# EAGLE library part EPF10K200-BGA600 (library altera)
EPF10K200 FLEX 10K family
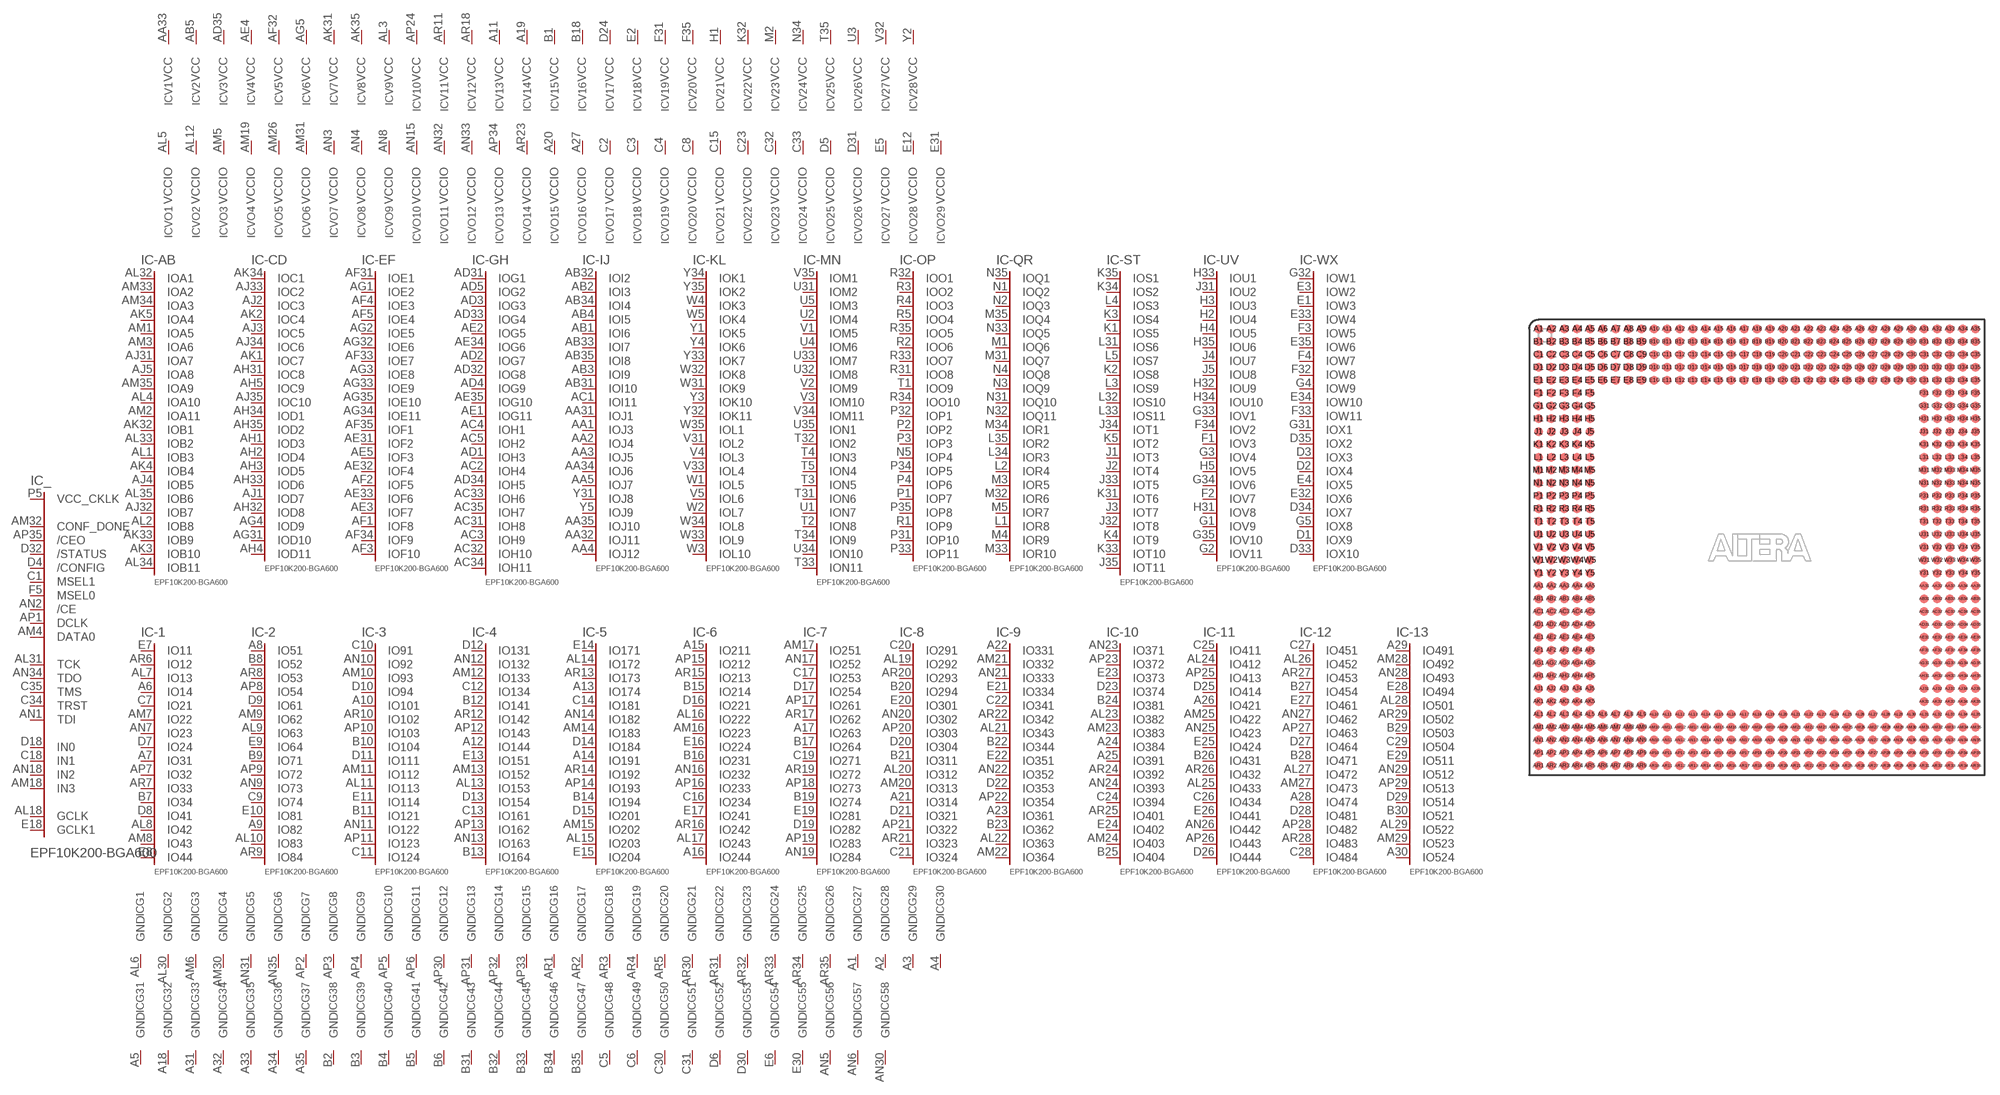
[diagram p45: symbol with the pads of BGA600; footprint BGA600]

Designator prefix IC; gates _=200B600C -AB=AB11 -CD=CD11 -EF=EF10 -GH=GH11 -IJ=IJ12 -KL=KL10 -MN=MN11 -OP=OP11 -QR=QR10 -ST=ST11 -UV=UV11 -WX=WX10 -1=IO44 -2=IO84 -3=IO124 -4=IO164 -5=IO204 -6=IO244 -7=IO284 -8=IO324 -9=IO364 -10=IO404 -11=IO444 -12=IO484 -13=IO524 G1=GND G2=GND G3=GND G4=GND G5=GND G6=GND G7=GND G8=GND G9=GND G10=GND G11=GND G12=GND G13=GND G14=GND G15=GND G16=GND G17=GND G18=GND G19=GND G20=GND G21=GND G22=GND G23=GND G24=GND G25=GND G26=GND G27=GND G28=GND G29=GND G30=GND G31=GND G32=GND G33=GND G34=GND G35=GND G36=GND G37=GND G38=GND G39=GND G40=GND G41=GND G42=GND G43=GND G44=GND G45=GND G46=GND G47=GND G48=GND G49=GND G50=GND G51=GND G52=GND G53=GND G54=GND G55=GND G56=GND G57=GND G58=GND V1=VCCINT V2=VCCINT V3=VCCINT V4=VCCINT V5=VCCINT V6=VCCINT V7=VCCINT V8=VCCINT V9=VCCINT V10=VCCINT V11=VCCINT V12=VCCINT V13=VCCINT V14=VCCINT V15=VCCINT V16=VCCINT V17=VCCINT V18=VCCINT V19=VCCINT V20=VCCINT V21=VCCINT V22=VCCINT V23=VCCINT V24=VCCINT V25=VCCINT V26=VCCINT V27=VCCINT V28=VCCINT VO1=VCCIO VO2=VCCIO VO3=VCCIO VO4=VCCIO VO5=VCCIO VO6=VCCIO VO7=VCCIO VO8=VCCIO VO9=VCCIO VO10=VCCIO VO11=VCCIO VO12=VCCIO VO13=VCCIO VO14=VCCIO VO15=VCCIO VO16=VCCIO VO17=VCCIO VO18=VCCIO VO19=VCCIO VO20=VCCIO VO21=VCCIO VO22=VCCIO VO23=VCCIO VO24=VCCIO VO25=VCCIO VO26=VCCIO VO27=VCCIO VO28=VCCIO VO29=VCCIO

## EPF10K200-BGA600 (MPN: EPF10K200EBC600-1; OC_FARNELL: unknown; OC_NEWARK: 51R8896)  [BGA600]
A1  G27:GND  pwr
A2  G28:GND  pwr
A3  G29:GND  pwr
A4  G30:GND  pwr
A5  G31:GND  pwr
A6  -1:IO14
A7  -1:IO31
A8  -2:IO51
A9  -2:IO82
A10  -3:IO101
A11  V13:VCC  pwr
A12  -4:IO144
A13  -5:IO174
A14  -5:IO191
A15  -6:IO211
A16  -6:IO244
A17  -7:IO263
A18  G32:GND  pwr
A19  V14:VCC  pwr
A20  VO15:VCCIO  pwr
A21  -8:IO314
A22  -9:IO331
A23  -9:IO361
A24  -10:IO384
A25  -10:IO391
A26  -11:IO421
A27  VO16:VCCIO  pwr
A28  -12:IO474
A29  -13:IO491
A30  -13:IO524
A31  G33:GND  pwr
A32  G34:GND  pwr
A33  G35:GND  pwr
A34  G36:GND  pwr
A35  G37:GND  pwr
AA1  -IJ:IOJ3
AA2  -IJ:IOJ4
AA3  -IJ:IOJ5
AA4  -IJ:IOJ12
AA5  -IJ:IOJ7
AA31  -IJ:IOJ1
AA32  -IJ:IOJ11
AA33  V1:VCC  pwr
AA34  -IJ:IOJ6
AA35  -IJ:IOJ10
AB1  -IJ:IOI6
AB2  -IJ:IOI3
AB3  -IJ:IOI9
AB4  -IJ:IOI5
AB5  V2:VCC  pwr
AB31  -IJ:IOI10
AB32  -IJ:IOI2
AB33  -IJ:IOI7
AB34  -IJ:IOI4
AB35  -IJ:IOI8
AC1  -IJ:IOI11
AC2  -GH:IOH4
AC3  -GH:IOH9
AC4  -GH:IOH1
AC5  -GH:IOH2
AC31  -GH:IOH8
AC32  -GH:IOH10
AC33  -GH:IOH6
AC34  -GH:IOH11
AC35  -GH:IOH7
AD1  -GH:IOH3
AD2  -GH:IOG7
AD3  -GH:IOG3
AD4  -GH:IOG9
AD5  -GH:IOG2
AD31  -GH:IOG1
AD32  -GH:IOG8
AD33  -GH:IOG4
AD34  -GH:IOH5
AD35  V3:VCC  pwr
AE1  -GH:IOG11
AE2  -GH:IOG5
AE3  -EF:IOF7
AE4  V4:VCC  pwr
AE5  -EF:IOF3
AE31  -EF:IOF2
AE32  -EF:IOF4
AE33  -EF:IOF6
AE34  -GH:IOG6
AE35  -GH:IOG10
AF1  -EF:IOF8
AF2  -EF:IOF5
AF3  -EF:IOF10
AF4  -EF:IOE3
AF5  -EF:IOE4
AF31  -EF:IOE1
AF32  V5:VCC  pwr
AF33  -EF:IOE7
AF34  -EF:IOF9
AF35  -EF:IOF1
AG1  -EF:IOE2
AG2  -EF:IOE5
AG3  -EF:IOE8
AG4  -CD:IOD9
AG5  V6:VCC  pwr
AG31  -CD:IOD10
AG32  -EF:IOE6
AG33  -EF:IOE9
AG34  -EF:IOE11
AG35  -EF:IOE10
AH1  -CD:IOD3
AH2  -CD:IOD4
AH3  -CD:IOD5
AH4  -CD:IOD11
AH5  -CD:IOC9
AH31  -CD:IOC8
AH32  -CD:IOD8
AH33  -CD:IOD6
AH34  -CD:IOD1
AH35  -CD:IOD2
AJ1  -CD:IOD7
AJ2  -CD:IOC3
AJ3  -CD:IOC5
AJ4  -AB:IOB5
AJ5  -AB:IOA8
AJ31  -AB:IOA7
AJ32  -AB:IOB7
AJ33  -CD:IOC2
AJ34  -CD:IOC6
AJ35  -CD:IOC10
AK1  -CD:IOC7
AK2  -CD:IOC4
AK3  -AB:IOB10
AK4  -AB:IOB4
AK5  -AB:IOA4
AK31  V7:VCC  pwr
AK32  -AB:IOB1
AK33  -AB:IOB9
AK34  -CD:IOC1
AK35  V8:VCC  pwr
AL1  -AB:IOB3
AL2  -AB:IOB8
AL3  V9:VCC  pwr
AL4  -AB:IOA10
AL5  VO1:VCCIO  pwr
AL6  G1:GND  pwr
AL7  -1:IO13
AL8  -1:IO42
AL9  -2:IO63
AL10  -2:IO83
AL11  -3:IO113
AL12  VO2:VCCIO  pwr
AL13  -4:IO153
AL14  -5:IO172
AL15  -5:IO203
AL16  -6:IO222
AL17  -6:IO243
AL18  _:GCLK  in
AL19  -8:IO292
AL20  -8:IO312
AL21  -9:IO343
AL22  -9:IO363
AL23  -10:IO382
AL24  -11:IO412
AL25  -11:IO433
AL26  -12:IO452
AL27  -12:IO472
AL28  -13:IO501
AL29  -13:IO522
AL30  G2:GND  pwr
AL31  _:TCK
AL32  -AB:IOA1
AL33  -AB:IOB2
AL34  -AB:IOB11
AL35  -AB:IOB6
AM1  -AB:IOA5
AM2  -AB:IOA11
AM3  -AB:IOA6
AM4  _:DATA0  in
AM5  VO3:VCCIO  pwr
AM6  G3:GND  pwr
AM7  -1:IO22
AM8  -1:IO43
AM9  -2:IO62
AM10  -3:IO93
AM11  -3:IO112
AM12  -4:IO133
AM13  -4:IO152
AM14  -5:IO183
AM15  -5:IO202
AM16  -6:IO223
AM17  -7:IO251
AM18  _:IN3  in
AM19  VO4:VCCIO  pwr
AM20  -8:IO313
AM21  -9:IO332
AM22  -9:IO364
AM23  -10:IO383
AM24  -10:IO403
AM25  -11:IO422
AM26  VO5:VCCIO  pwr
AM27  -12:IO473
AM28  -13:IO492
AM29  -13:IO523
AM30  G4:GND  pwr
AM31  VO6:VCCIO  pwr
AM32  _:CONF_DONE  in
AM33  -AB:IOA2
AM34  -AB:IOA3
AM35  -AB:IOA9
AN1  _:TDI
AN2  _:/CE  in
AN3  VO7:VCCIO  pwr
AN4  VO8:VCCIO  pwr
AN5  G56:GND  pwr
AN6  G57:GND  pwr
AN7  -1:IO23
AN8  VO9:VCCIO  pwr
AN9  -2:IO73
AN10  -3:IO92
AN11  -3:IO122
AN12  -4:IO132
AN13  -4:IO163
AN14  -5:IO182
AN15  VO10:VCCIO  pwr
AN16  -6:IO232
AN17  -7:IO252
AN18  _:IN2  in
AN19  -7:IO284
AN20  -8:IO302
AN21  -9:IO333
AN22  -9:IO352
AN23  -10:IO371
AN24  -10:IO393
AN25  -11:IO423
AN26  -11:IO442
AN27  -12:IO462
AN28  -13:IO493
AN29  -13:IO512
AN30  G58:GND  pwr
AN31  G5:GND  pwr
AN32  VO11:VCCIO  pwr
AN33  VO12:VCCIO  pwr
AN34  _:TDO
AN35  G6:GND  pwr
AP1  _:DCLK  in
AP2  G7:GND  pwr
AP3  G8:GND  pwr
AP4  G9:GND  pwr
AP5  G10:GND  pwr
AP6  G11:GND  pwr
AP7  -1:IO32
AP8  -2:IO54
AP9  -2:IO72
AP10  -3:IO103
AP11  -3:IO123
AP12  -4:IO143
AP13  -4:IO162
AP14  -5:IO193
AP15  -6:IO212
AP16  -6:IO233
AP17  -7:IO261
AP18  -7:IO273
AP19  -7:IO283
AP20  -8:IO303
AP21  -8:IO322
AP22  -9:IO354
AP23  -10:IO372
AP24  V10:VCC  pwr
AP25  -11:IO413
AP26  -11:IO443
AP27  -12:IO463
AP28  -12:IO482
AP29  -13:IO513
AP30  G12:GND  pwr
AP31  G13:GND  pwr
AP32  G14:GND  pwr
AP33  G15:GND  pwr
AP34  VO13:VCCIO  pwr
AP35  _:/CEO  in
AR1  G16:GND  pwr
AR2  G17:GND  pwr
AR3  G18:GND  pwr
AR4  G19:GND  pwr
AR5  G20:GND  pwr
AR6  -1:IO12
AR7  -1:IO33
AR8  -2:IO53
AR9  -2:IO84
AR10  -3:IO102
AR11  V11:VCC  pwr
AR12  -4:IO142
AR13  -5:IO173
AR14  -5:IO192
AR15  -6:IO213
AR16  -6:IO242
AR17  -7:IO262
AR18  V12:VCC  pwr
AR19  -7:IO272
AR20  -8:IO293
AR21  -8:IO323
AR22  -9:IO342
AR23  VO14:VCCIO  pwr
AR24  -10:IO392
AR25  -10:IO401
AR26  -11:IO432
AR27  -12:IO453
AR28  -12:IO483
AR29  -13:IO502
AR30  G21:GND  pwr
AR31  G22:GND  pwr
AR32  G23:GND  pwr
AR33  G24:GND  pwr
AR34  G25:GND  pwr
AR35  G26:GND  pwr
B1  V15:VCC  pwr
B2  G38:GND  pwr
B3  G39:GND  pwr
B4  G40:GND  pwr
B5  G41:GND  pwr
B6  G42:GND  pwr
B7  -1:IO34
B8  -2:IO52
B9  -2:IO71
B10  -3:IO104
B11  -3:IO121
B12  -4:IO141
B13  -4:IO164
B14  -5:IO194
B15  -6:IO214
B16  -6:IO231
B17  -7:IO264
B18  V16:VCC  pwr
B19  -7:IO274
B20  -8:IO294
B21  -8:IO311
B22  -9:IO344
B23  -9:IO362
B24  -10:IO381
B25  -10:IO404
B26  -11:IO431
B27  -12:IO454
B28  -12:IO471
B29  -13:IO503
B30  -13:IO521
B31  G43:GND  pwr
B32  G44:GND  pwr
B33  G45:GND  pwr
B34  G46:GND  pwr
B35  G47:GND  pwr
C1  _:MSEL1  in
C2  VO17:VCCIO  pwr
C3  VO18:VCCIO  pwr
C4  VO19:VCCIO  pwr
C5  G48:GND  pwr
C6  G49:GND  pwr
C7  -1:IO21
C8  VO20:VCCIO  pwr
C9  -2:IO74
C10  -3:IO91
C11  -3:IO124
C12  -4:IO134
C13  -4:IO161
C14  -5:IO181
C15  VO21:VCCIO  pwr
C16  -6:IO234
C17  -7:IO253
C18  _:IN1  in
C19  -7:IO271
C20  -8:IO291
C21  -8:IO324
C22  -9:IO341
C23  VO22:VCCIO  pwr
C24  -10:IO394
C25  -11:IO411
C26  -11:IO434
C27  -12:IO451
C28  -12:IO484
C29  -13:IO504
C30  G50:GND  pwr
C31  G51:GND  pwr
C32  VO23:VCCIO  pwr
C33  VO24:VCCIO  pwr
C34  _:TRST
C35  _:TMS
D1  -WX:IOX9
D2  -WX:IOX4
D3  -WX:IOX3
D4  _:/CONFIG  in
D5  VO25:VCCIO  pwr
D6  G52:GND  pwr
D7  -1:IO24
D8  -1:IO41
D9  -2:IO61
D10  -3:IO94
D11  -3:IO111
D12  -4:IO131
D13  -4:IO154
D14  -5:IO184
D15  -5:IO201
D16  -6:IO221
D17  -7:IO254
D18  _:IN0  in
D19  -7:IO282
D20  -8:IO304
D21  -8:IO321
D22  -9:IO353
D23  -10:IO374
D24  V17:VCC  pwr
D25  -11:IO414
D26  -11:IO444
D27  -12:IO464
D28  -12:IO481
D29  -13:IO514
D30  G53:GND  pwr
D31  VO26:VCCIO  pwr
D32  _:/STATUS  in
D33  -WX:IOX10
D34  -WX:IOX7
D35  -WX:IOX2
E1  -WX:IOW3
E2  V18:VCC  pwr
E3  -WX:IOW2
E4  -WX:IOX5
E5  VO27:VCCIO  pwr
E6  G54:GND  pwr
E7  -1:IO11
E8  -1:IO44
E9  -2:IO64
E10  -2:IO81
E11  -3:IO114
E12  VO28:VCCIO  pwr
E13  -4:IO151
E14  -5:IO171
E15  -5:IO204
E16  -6:IO224
E17  -6:IO241
E18  _:GCLK1  in
E19  -7:IO281
E20  -8:IO301
E21  -9:IO334
E22  -9:IO351
E23  -10:IO373
E24  -10:IO402
E25  -11:IO424
E26  -11:IO441
E27  -12:IO461
E28  -13:IO494
E29  -13:IO511
E30  G55:GND  pwr
E31  VO29:VCCIO  pwr
E32  -WX:IOX6
E33  -WX:IOW4
E34  -WX:IOW10
E35  -WX:IOW6
F1  -UV:IOV3
F2  -UV:IOV7
F3  -WX:IOW5
F4  -WX:IOW7
F5  _:MSEL0  in
F31  V19:VCC  pwr
F32  -WX:IOW8
F33  -WX:IOW11
F34  -UV:IOV2
F35  V20:VCC  pwr
G1  -UV:IOV9
G2  -UV:IOV11
G3  -UV:IOV4
G4  -WX:IOW9
G5  -WX:IOX8
G31  -WX:IOX1
G32  -WX:IOW1
G33  -UV:IOV1
G34  -UV:IOV6
G35  -UV:IOV10
H1  V21:VCC  pwr
H2  -UV:IOU4
H3  -UV:IOU3
H4  -UV:IOU5
H5  -UV:IOV5
H31  -UV:IOV8
H32  -UV:IOU9
H33  -UV:IOU1
H34  -UV:IOU10
H35  -UV:IOU6
J1  -ST:IOT3
J2  -ST:IOT4
J3  -ST:IOT7
J4  -UV:IOU7
J5  -UV:IOU8
J31  -UV:IOU2
J32  -ST:IOT8
J33  -ST:IOT5
J34  -ST:IOT1
J35  -ST:IOT11
K1  -ST:IOS5
K2  -ST:IOS8
K3  -ST:IOS4
K4  -ST:IOT9
K5  -ST:IOT2
K31  -ST:IOT6
K32  V22:VCC  pwr
K33  -ST:IOT10
K34  -ST:IOS2
K35  -ST:IOS1
L1  -QR:IOR8
L2  -QR:IOR4
L3  -ST:IOS9
L4  -ST:IOS3
L5  -ST:IOS7
L31  -ST:IOS6
L32  -ST:IOS10
L33  -ST:IOS11
L34  -QR:IOR3
L35  -QR:IOR2
M1  -QR:IOQ6
M2  V23:VCC  pwr
M3  -QR:IOR5
M4  -QR:IOR9
M5  -QR:IOR7
M31  -QR:IOQ7
M32  -QR:IOR6
M33  -QR:IOR10
M34  -QR:IOR1
M35  -QR:IOQ4
N1  -QR:IOQ2
N2  -QR:IOQ3
N3  -QR:IOQ9
N4  -QR:IOQ8
N5  -OP:IOP4
N31  -QR:IOQ10
N32  -QR:IOQ11
N33  -QR:IOQ5
N34  V24:VCC  pwr
N35  -QR:IOQ1
P1  -OP:IOP7
P2  -OP:IOP2
P3  -OP:IOP3
P4  -OP:IOP6
P5  _:VCC_CKLK  pas
P31  -OP:IOP10
P32  -OP:IOP1
P33  -OP:IOP11
P34  -OP:IOP5
P35  -OP:IOP8
R1  -OP:IOP9
R2  -OP:IOO6
R3  -OP:IOO2
R4  -OP:IOO3
R5  -OP:IOO4
R31  -OP:IOO8
R32  -OP:IOO1
R33  -OP:IOO7
R34  -OP:IOO10
R35  -OP:IOO5
T1  -OP:IOO9
T2  -MN:ION8
T3  -MN:ION5
T4  -MN:ION3
T5  -MN:ION4
T31  -MN:ION6
T32  -MN:ION2
T33  -MN:ION11
T34  -MN:ION9
T35  V25:VCC  pwr
U1  -MN:ION7
U2  -MN:IOM4
U3  V26:VCC  pwr
U4  -MN:IOM6
U5  -MN:IOM3
U31  -MN:IOM2
U32  -MN:IOM8
U33  -MN:IOM7
U34  -MN:ION10
U35  -MN:ION1
V1  -MN:IOM5
V2  -MN:IOM9
V3  -MN:IOM10
V4  -KL:IOL3
V5  -KL:IOL6
V31  -KL:IOL2
V32  V27:VCC  pwr
V33  -KL:IOL4
V34  -MN:IOM11
V35  -MN:IOM1
W1  -KL:IOL5
W2  -KL:IOL7
W3  -KL:IOL10
W4  -KL:IOK3
W5  -KL:IOK4
W31  -KL:IOK9
W32  -KL:IOK8
W33  -KL:IOL9
W34  -KL:IOL8
W35  -KL:IOL1
Y1  -KL:IOK5
Y2  V28:VCC  pwr
Y3  -KL:IOK10
Y4  -KL:IOK6
Y5  -IJ:IOJ9
Y31  -IJ:IOJ8
Y32  -KL:IOK11
Y33  -KL:IOK7
Y34  -KL:IOK1
Y35  -KL:IOK2

## Footprint BGA600 (pad centres in mm)
Ball Grid Array
smd 0.9 x 0.9: A1 -21.59,21.59; A2 -20.32,21.59; A3 -19.05,21.59; A4 -17.78,21.59; A5 -16.51,21.59; A6 -15.24,21.59; A7 -13.97,21.59; A8 -12.7,21.59; A9 -11.43,21.59; A10 -10.16,21.59; A11 -8.89,21.59; A12 -7.62,21.59; A13 -6.35,21.59; A14 -5.08,21.59; A15 -3.81,21.59; A16 -2.54,21.59; A17 -1.27,21.59; A18 0,21.59; A19 1.27,21.59; A20 2.54,21.59; A21 3.81,21.59; A22 5.08,21.59; A23 6.35,21.59; A24 7.62,21.59; A25 8.89,21.59; A26 10.16,21.59; A27 11.43,21.59; A28 12.7,21.59; A29 13.97,21.59; A30 15.24,21.59; A31 16.51,21.59; A32 17.78,21.59; A33 19.05,21.59; A34 20.32,21.59; A35 21.59,21.59; AA1 -21.59,-3.81; AA2 -20.32,-3.81; AA3 -19.05,-3.81; AA4 -17.78,-3.81; AA5 -16.51,-3.81; AA31 16.51,-3.81; AA32 17.78,-3.81; AA33 19.05,-3.81; AA34 20.32,-3.81; AA35 21.59,-3.81; AB1 -21.59,-5.08; AB2 -20.32,-5.08; AB3 -19.05,-5.08; AB4 -17.78,-5.08; AB5 -16.51,-5.08; AB31 16.51,-5.08; AB32 17.78,-5.08; AB33 19.05,-5.08; AB34 20.32,-5.08; AB35 21.59,-5.08; AC1 -21.59,-6.35; AC2 -20.32,-6.35; AC3 -19.05,-6.35; AC4 -17.78,-6.35; AC5 -16.51,-6.35; AC31 16.51,-6.35; AC32 17.78,-6.35; AC33 19.05,-6.35; AC34 20.32,-6.35; AC35 21.59,-6.35; AD1 -21.59,-7.62; AD2 -20.32,-7.62; AD3 -19.05,-7.62; AD4 -17.78,-7.62; AD5 -16.51,-7.62; AD31 16.51,-7.62; AD32 17.78,-7.62; AD33 19.05,-7.62; AD34 20.32,-7.62; AD35 21.59,-7.62; AE1 -21.59,-8.89; AE2 -20.32,-8.89; AE3 -19.05,-8.89; AE4 -17.78,-8.89; AE5 -16.51,-8.89; AE31 16.51,-8.89; AE32 17.78,-8.89; AE33 19.05,-8.89; AE34 20.32,-8.89; AE35 21.59,-8.89; AF1 -21.59,-10.16; AF2 -20.32,-10.16; AF3 -19.05,-10.16; AF4 -17.78,-10.16; AF5 -16.51,-10.16; AF31 16.51,-10.16; AF32 17.78,-10.16; AF33 19.05,-10.16; AF34 20.32,-10.16; AF35 21.59,-10.16; AG1 -21.59,-11.43; AG2 -20.32,-11.43; AG3 -19.05,-11.43; AG4 -17.78,-11.43; AG5 -16.51,-11.43; AG31 16.51,-11.43; AG32 17.78,-11.43; AG33 19.05,-11.43; AG34 20.32,-11.43; AG35 21.59,-11.43; AH1 -21.59,-12.7; AH2 -20.32,-12.7; AH3 -19.05,-12.7; AH4 -17.78,-12.7; AH5 -16.51,-12.7; AH31 16.51,-12.7; AH32 17.78,-12.7; AH33 19.05,-12.7; AH34 20.32,-12.7; AH35 21.59,-12.7; AJ1 -21.59,-13.97; AJ2 -20.32,-13.97; AJ3 -19.05,-13.97; AJ4 -17.78,-13.97; AJ5 -16.51,-13.97; AJ31 16.51,-13.97; AJ32 17.78,-13.97; AJ33 19.05,-13.97; AJ34 20.32,-13.97; AJ35 21.59,-13.97; AK1 -21.59,-15.24; AK2 -20.32,-15.24; AK3 -19.05,-15.24; AK4 -17.78,-15.24; AK5 -16.51,-15.24; AK31 16.51,-15.24; AK32 17.78,-15.24; AK33 19.05,-15.24; AK34 20.32,-15.24; AK35 21.59,-15.24; AL1 -21.59,-16.51; AL2 -20.32,-16.51; AL3 -19.05,-16.51; AL4 -17.78,-16.51; AL5 -16.51,-16.51; AL6 -15.24,-16.51; AL7 -13.97,-16.51; AL8 -12.7,-16.51; AL9 -11.43,-16.51; AL10 -10.16,-16.51; AL11 -8.89,-16.51; AL12 -7.62,-16.51; AL13 -6.35,-16.51; AL14 -5.08,-16.51; AL15 -3.81,-16.51; AL16 -2.54,-16.51; AL17 -1.27,-16.51; AL18 0,-16.51; AL19 1.27,-16.51; AL20 2.54,-16.51; AL21 3.81,-16.51; AL22 5.08,-16.51; AL23 6.35,-16.51; AL24 7.62,-16.51; AL25 8.89,-16.51; AL26 10.16,-16.51; AL27 11.43,-16.51; AL28 12.7,-16.51; AL29 13.97,-16.51; AL30 15.24,-16.51; AL31 16.51,-16.51; AL32 17.78,-16.51; AL33 19.05,-16.51; AL34 20.32,-16.51; AL35 21.59,-16.51; AM1 -21.59,-17.78; AM2 -20.32,-17.78; AM3 -19.05,-17.78; AM4 -17.78,-17.78; AM5 -16.51,-17.78; AM6 -15.24,-17.78; AM7 -13.97,-17.78; AM8 -12.7,-17.78; AM9 -11.43,-17.78; AM10 -10.16,-17.78; AM11 -8.89,-17.78; AM12 -7.62,-17.78; AM13 -6.35,-17.78; AM14 -5.08,-17.78; AM15 -3.81,-17.78; AM16 -2.54,-17.78; AM17 -1.27,-17.78; AM18 0,-17.78; AM19 1.27,-17.78; AM20 2.54,-17.78; AM21 3.81,-17.78; AM22 5.08,-17.78; AM23 6.35,-17.78; AM24 7.62,-17.78; AM25 8.89,-17.78; AM26 10.16,-17.78; AM27 11.43,-17.78; AM28 12.7,-17.78; AM29 13.97,-17.78; AM30 15.24,-17.78; AM31 16.51,-17.78; AM32 17.78,-17.78; AM33 19.05,-17.78; AM34 20.32,-17.78; AM35 21.59,-17.78; AN1 -21.59,-19.05; AN2 -20.32,-19.05; AN3 -19.05,-19.05; AN4 -17.78,-19.05; AN5 -16.51,-19.05; AN6 -15.24,-19.05; AN7 -13.97,-19.05; AN8 -12.7,-19.05; AN9 -11.43,-19.05; AN10 -10.16,-19.05; AN11 -8.89,-19.05; AN12 -7.62,-19.05; AN13 -6.35,-19.05; AN14 -5.08,-19.05; AN15 -3.81,-19.05; AN16 -2.54,-19.05; AN17 -1.27,-19.05; AN18 0,-19.05; AN19 1.27,-19.05; AN20 2.54,-19.05; AN21 3.81,-19.05; AN22 5.08,-19.05; AN23 6.35,-19.05; AN24 7.62,-19.05; AN25 8.89,-19.05; AN26 10.16,-19.05; AN27 11.43,-19.05; AN28 12.7,-19.05; AN29 13.97,-19.05; AN30 15.24,-19.05; AN31 16.51,-19.05; AN32 17.78,-19.05; AN33 19.05,-19.05; AN34 20.32,-19.05; AN35 21.59,-19.05; AP1 -21.59,-20.32; AP2 -20.32,-20.32; AP3 -19.05,-20.32; AP4 -17.78,-20.32; AP5 -16.51,-20.32; AP6 -15.24,-20.32; AP7 -13.97,-20.32; AP8 -12.7,-20.32; AP9 -11.43,-20.32; AP10 -10.16,-20.32; AP11 -8.89,-20.32; AP12 -7.62,-20.32; AP13 -6.35,-20.32; AP14 -5.08,-20.32; AP15 -3.81,-20.32; AP16 -2.54,-20.32; AP17 -1.27,-20.32; AP18 0,-20.32; AP19 1.27,-20.32; AP20 2.54,-20.32; AP21 3.81,-20.32; AP22 5.08,-20.32; AP23 6.35,-20.32; AP24 7.62,-20.32; AP25 8.89,-20.32; AP26 10.16,-20.32; AP27 11.43,-20.32; AP28 12.7,-20.32; AP29 13.97,-20.32; AP30 15.24,-20.32; AP31 16.51,-20.32; AP32 17.78,-20.32; AP33 19.05,-20.32; AP34 20.32,-20.32; AP35 21.59,-20.32; AR1 -21.59,-21.59; AR2 -20.32,-21.59; AR3 -19.05,-21.59; AR4 -17.78,-21.59; AR5 -16.51,-21.59; AR6 -15.24,-21.59; AR7 -13.97,-21.59; AR8 -12.7,-21.59; AR9 -11.43,-21.59; AR10 -10.16,-21.59; AR11 -8.89,-21.59; AR12 -7.62,-21.59; AR13 -6.35,-21.59; AR14 -5.08,-21.59; AR15 -3.81,-21.59; AR16 -2.54,-21.59; AR17 -1.27,-21.59; AR18 0,-21.59; AR19 1.27,-21.59; AR20 2.54,-21.59; AR21 3.81,-21.59; AR22 5.08,-21.59; AR23 6.35,-21.59; AR24 7.62,-21.59; AR25 8.89,-21.59; AR26 10.16,-21.59; AR27 11.43,-21.59; AR28 12.7,-21.59; AR29 13.97,-21.59; AR30 15.24,-21.59; AR31 16.51,-21.59; AR32 17.78,-21.59; AR33 19.05,-21.59; AR34 20.32,-21.59; AR35 21.59,-21.59; B1 -21.59,20.32; B2 -20.32,20.32; B3 -19.05,20.32; B4 -17.78,20.32; B5 -16.51,20.32; B6 -15.24,20.32; B7 -13.97,20.32; B8 -12.7,20.32; B9 -11.43,20.32; B10 -10.16,20.32; B11 -8.89,20.32; B12 -7.62,20.32; B13 -6.35,20.32; B14 -5.08,20.32; B15 -3.81,20.32; B16 -2.54,20.32; B17 -1.27,20.32; B18 0,20.32; B19 1.27,20.32; B20 2.54,20.32; B21 3.81,20.32; B22 5.08,20.32; B23 6.35,20.32; B24 7.62,20.32; B25 8.89,20.32; B26 10.16,20.32; B27 11.43,20.32; B28 12.7,20.32; B29 13.97,20.32; B30 15.24,20.32; B31 16.51,20.32; B32 17.78,20.32; B33 19.05,20.32; B34 20.32,20.32; B35 21.59,20.32; C1 -21.59,19.05; C2 -20.32,19.05; C3 -19.05,19.05; C4 -17.78,19.05; C5 -16.51,19.05; C6 -15.24,19.05; C7 -13.97,19.05; C8 -12.7,19.05; C9 -11.43,19.05; C10 -10.16,19.05; C11 -8.89,19.05; C12 -7.62,19.05; C13 -6.35,19.05; C14 -5.08,19.05; C15 -3.81,19.05; C16 -2.54,19.05; C17 -1.27,19.05; C18 0,19.05; C19 1.27,19.05; C20 2.54,19.05; C21 3.81,19.05; C22 5.08,19.05; C23 6.35,19.05; C24 7.62,19.05; C25 8.89,19.05; C26 10.16,19.05; C27 11.43,19.05; C28 12.7,19.05; C29 13.97,19.05; C30 15.24,19.05; C31 16.51,19.05; C32 17.78,19.05; C33 19.05,19.05; C34 20.32,19.05; C35 21.59,19.05; D1 -21.59,17.78; D2 -20.32,17.78; D3 -19.05,17.78; D4 -17.78,17.78; D5 -16.51,17.78; D6 -15.24,17.78; D7 -13.97,17.78; D8 -12.7,17.78; D9 -11.43,17.78; D10 -10.16,17.78; D11 -8.89,17.78; D12 -7.62,17.78; D13 -6.35,17.78; D14 -5.08,17.78; D15 -3.81,17.78; D16 -2.54,17.78; D17 -1.27,17.78; D18 0,17.78; D19 1.27,17.78; D20 2.54,17.78; D21 3.81,17.78; D22 5.08,17.78; D23 6.35,17.78; D24 7.62,17.78; D25 8.89,17.78; D26 10.16,17.78; D27 11.43,17.78; D28 12.7,17.78; D29 13.97,17.78; D30 15.24,17.78; D31 16.51,17.78; D32 17.78,17.78; D33 19.05,17.78; D34 20.32,17.78; D35 21.59,17.78; E1 -21.59,16.51; E2 -20.32,16.51; E3 -19.05,16.51; E4 -17.78,16.51; E5 -16.51,16.51; E6 -15.24,16.51; E7 -13.97,16.51; E8 -12.7,16.51; E9 -11.43,16.51; E10 -10.16,16.51; E11 -8.89,16.51; E12 -7.62,16.51; E13 -6.35,16.51; E14 -5.08,16.51; E15 -3.81,16.51; E16 -2.54,16.51; E17 -1.27,16.51; E18 0,16.51; E19 1.27,16.51; E20 2.54,16.51; E21 3.81,16.51; E22 5.08,16.51; E23 6.35,16.51; E24 7.62,16.51; E25 8.89,16.51; E26 10.16,16.51; E27 11.43,16.51; E28 12.7,16.51; E29 13.97,16.51; E30 15.24,16.51; E31 16.51,16.51; E32 17.78,16.51; E33 19.05,16.51; E34 20.32,16.51; E35 21.59,16.51; F1 -21.59,15.24; F2 -20.32,15.24; F3 -19.05,15.24; F4 -17.78,15.24; F5 -16.51,15.24; F31 16.51,15.24; F32 17.78,15.24; F33 19.05,15.24; F34 20.32,15.24; F35 21.59,15.24; G1 -21.59,13.97; G2 -20.32,13.97; G3 -19.05,13.97; G4 -17.78,13.97; G5 -16.51,13.97; G31 16.51,13.97; G32 17.78,13.97; G33 19.05,13.97; G34 20.32,13.97; G35 21.59,13.97; H1 -21.59,12.7; H2 -20.32,12.7; H3 -19.05,12.7; H4 -17.78,12.7; H5 -16.51,12.7; H31 16.51,12.7; H32 17.78,12.7; H33 19.05,12.7; H34 20.32,12.7; H35 21.59,12.7; J1 -21.59,11.43; J2 -20.32,11.43; J3 -19.05,11.43; J4 -17.78,11.43; J5 -16.51,11.43; J31 16.51,11.43; J32 17.78,11.43; J33 19.05,11.43; J34 20.32,11.43; J35 21.59,11.43; K1 -21.59,10.16; K2 -20.32,10.16; K3 -19.05,10.16; K4 -17.78,10.16; K5 -16.51,10.16; K31 16.51,10.16; K32 17.78,10.16; K33 19.05,10.16; K34 20.32,10.16; K35 21.59,10.16; L1 -21.59,8.89; L2 -20.32,8.89; L3 -19.05,8.89; L4 -17.78,8.89; L5 -16.51,8.89; L31 16.51,8.89; L32 17.78,8.89; L33 19.05,8.89; L34 20.32,8.89; L35 21.59,8.89; M1 -21.59,7.62; M2 -20.32,7.62; M3 -19.05,7.62; M4 -17.78,7.62; M5 -16.51,7.62; M31 16.51,7.62; M32 17.78,7.62; M33 19.05,7.62; M34 20.32,7.62; M35 21.59,7.62; N1 -21.59,6.35; N2 -20.32,6.35; N3 -19.05,6.35; N4 -17.78,6.35; N5 -16.51,6.35; N31 16.51,6.35; N32 17.78,6.35; N33 19.05,6.35; N34 20.32,6.35; N35 21.59,6.35; P1 -21.59,5.08; P2 -20.32,5.08; P3 -19.05,5.08; P4 -17.78,5.08; P5 -16.51,5.08; P31 16.51,5.08; P32 17.78,5.08; P33 19.05,5.08; P34 20.32,5.08; P35 21.59,5.08; R1 -21.59,3.81; R2 -20.32,3.81; R3 -19.05,3.81; R4 -17.78,3.81; R5 -16.51,3.81; R31 16.51,3.81; R32 17.78,3.81; R33 19.05,3.81; R34 20.32,3.81; R35 21.59,3.81; T1 -21.59,2.54; T2 -20.32,2.54; T3 -19.05,2.54; T4 -17.78,2.54; T5 -16.51,2.54; T31 16.51,2.54; T32 17.78,2.54; T33 19.05,2.54; T34 20.32,2.54; T35 21.59,2.54; U1 -21.59,1.27; U2 -20.32,1.27; U3 -19.05,1.27; U4 -17.78,1.27; U5 -16.51,1.27; U31 16.51,1.27; U32 17.78,1.27; U33 19.05,1.27; U34 20.32,1.27; U35 21.59,1.27; V1 -21.59,0; V2 -20.32,0; V3 -19.05,0; V4 -17.78,0; V5 -16.51,0; V31 16.51,0; V32 17.78,0; V33 19.05,0; V34 20.32,0; V35 21.59,0; W1 -21.59,-1.27; W2 -20.32,-1.27; W3 -19.05,-1.27; W4 -17.78,-1.27; W5 -16.51,-1.27; W31 16.51,-1.27; W32 17.78,-1.27; W33 19.05,-1.27; W34 20.32,-1.27; W35 21.59,-1.27; Y1 -21.59,-2.54; Y2 -20.32,-2.54; Y3 -19.05,-2.54; Y4 -17.78,-2.54; Y5 -16.51,-2.54; Y31 16.51,-2.54; Y32 17.78,-2.54; Y33 19.05,-2.54; Y34 20.32,-2.54; Y35 21.59,-2.54